# Altium footprint library PcbLib1.PcbLib: 3 footprints
Each footprint in its own frame and in the unit in brackets; x right, y up, seen from the top. Pads: shape width x height; smd on the part's side, far side on the other; paste and mask are expansions set on the pad; w line width, h text height; cw(c..) or ccw(c..) is an arc to the next point about the centre after c.
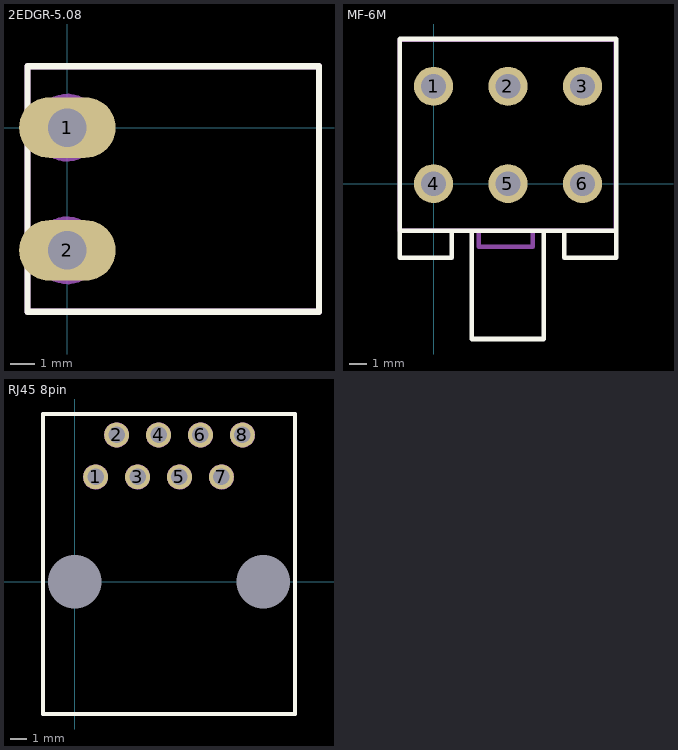
[diagram p0: the footprints below, top view; thin cyan lines are the x and y axes]

## 2EDGR-5.08 [mm]
pads (2):
  oval 4x2.5 hole 1.6: 1(0,0) 2(0,-5.08)
Top Overlay:
  lines w0.254: -1.651,-7.62 10.414,-7.62 10.414,2.54 -1.651,2.54 -1.651,-7.62
Mechanical 13:
  circle w0.254: c0,-5.08 r1.276
  circle w0.254: c0,0 r1.276
  lines w0.254: -1.651,-7.62 -1.651,2.54 10.414,2.54 10.414,-7.62 -1.651,-7.62
  text ".Designator" at 1.778,-2.794 h2
3D body: height 8.3, standoff 0.1, extent -1.524,-7.493 10.287,2.413

## MF-6M [mm]
pads (6):
  round 2.2 hole 1.4: 1(0,5.5) 2(4.2,5.5) 3(8.4,5.5) 4(0,0) 5(4.2,0) 6(8.4,0)
Top Overlay:
  lines w0.254: -1.905,-2.667 -1.905,8.167 10.305,8.167 10.305,-2.667 -1.905,-2.667
  lines w0.26: -1.905,-2.667 -1.905,-4.173 1.016,-4.173 1.016,-2.685 ; 2.159,-2.667 2.159,-8.763 6.223,-8.763 6.223,-2.685 ; 7.384,-2.685 7.384,-4.173 10.305,-4.173 10.305,-2.667
Mechanical 13:
  lines w0.254: 2.54,-2.667 2.54,-3.556 5.588,-3.556 5.588,-2.667 ; -1.905,-2.667 -1.905,8.128 10.287,8.128 10.287,-2.667 -1.905,-2.667
  text ".Designator" at 1.27,2.54 h2
3D body: height 12.9, standoff 0.1, extent -1.905,-2.667 10.305,8.167

## RJ45 8pin [mm]
pads (10):
  round 0 hole 3.25 unplated: 0(0,0) 0(11.43,0)
  round 1.5 hole 1: 1(1.27,6.35) 2(2.54,8.89) 3(3.81,6.35) 4(5.08,8.89) 5(6.35,6.35) 6(7.62,8.89) 7(8.89,6.35) 8(10.16,8.89)
Top Overlay:
  lines w0.254: -1.905,-8.001 13.335,-8.001 13.335,10.16 -1.905,10.16 -1.905,-8.001
Mechanical 13:
  circle w0.254: c2.54,8.89 r0.635
  circle w0.254: c5.08,8.89 r0.635
  circle w0.254: c7.62,8.89 r0.635
  circle w0.254: c10.16,8.89 r0.635
  circle w0.254: c8.89,6.35 r0.635
  circle w0.254: c6.35,6.35 r0.635
  circle w0.254: c3.81,6.35 r0.635
  circle w0.254: c1.27,6.35 r0.635
  circle w0.254: c11.43,0 r1.403
  circle w0.254: c0,0 r1.397
  lines w0.254: -1.905,-8.001 13.335,-8.001 13.335,10.16 -1.905,10.16 -1.905,-8.001
  text ".Designator" at 2.286,2.667 h2
3D body: height 12.29, standoff -4.1, extent -1.943,-8.001 13.373,10.16